# EAGLE library part X6173-15 (library sd_mmc_card_connector_custom)
SD/MMSC X6173-15 connector from Wielson, author: Grzegorz Rajtar, mcgregor@blackmesaeast.com.pl
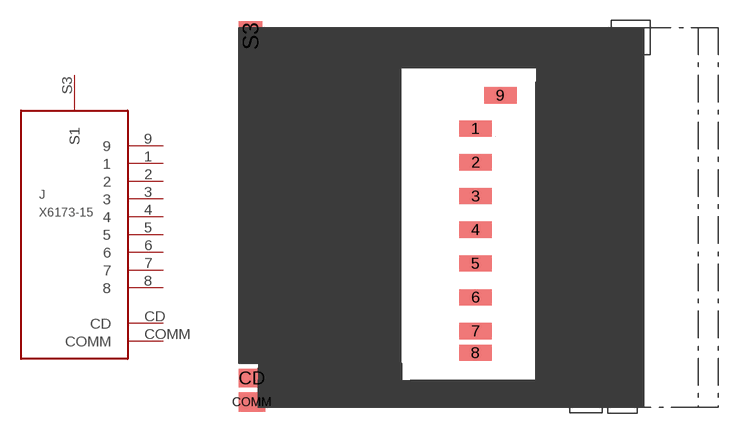
[diagram p0: symbol with the pads of SDCARD; footprint SDCARD]

Designator prefix J

## X6173-15  [SDCARD]
1  1
2  2
3  3
4  4
5  5
6  6
7  7
8  8
9  9
CD  CD
COMM  COMM
S3  S1

## Footprint SDCARD (pad centres in mm)
smd 2.4 x 1.2: 1 17.53,-5.46; 2 17.53,-7.96; 3 17.53,-10.47; 4 17.525,-12.955; 5 17.525,-15.46; 6 17.525,-17.965; 7 17.52,-20.47; 8 17.525,-22.085; 9 19.37,-3
smd 1.95 x 1.4: CD 0.975,-23.95
smd 1.95 x 1.45: COMM 0.975,-25.735
smd 1.75 x 2.2: S3 0.88,1.405
hole 1.4 at 23.68,0
hole 1.4 at 23.675,-24